# EAGLE library part DRV8839 (library ic-power)
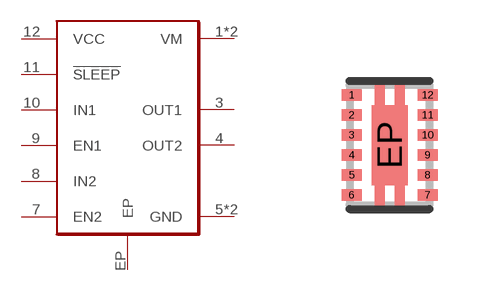
[diagram p9: symbol with the pads of WSON12; footprint WSON12]

Designator prefix IC

## DRV8839DSS  [WSON12]
1  VM  pas
2  VM  pas
3  OUT1  pas
4  OUT2  pas
5  GND  pas
6  GND  pas
7  EN2  in
8  IN2  in
9  EN1  in
10  IN1  in
11  !SLEEP  in
12  VCC  pas
EP  EP  pas

## Footprint WSON12 (pad centres in mm)
smd 0.5 x 0.28: 1 -0.95,1.25; 2 -0.95,0.75; 3 -0.95,0.25; 4 -0.95,-0.25; 5 -0.95,-0.75; 6 -0.95,-1.25; 7 0.95,-1.25; 8 0.95,-0.75; 9 0.95,-0.25; 10 0.95,0.25; 11 0.95,0.75; 12 0.95,1.25
smd 0.9 x 2: EP 0,0